# EAGLE library part 28*256 (library common)
Parallel EEPROM Memory, 256kbit, 150ns, 4.5 to 5.5 V 32-Pin PLCC
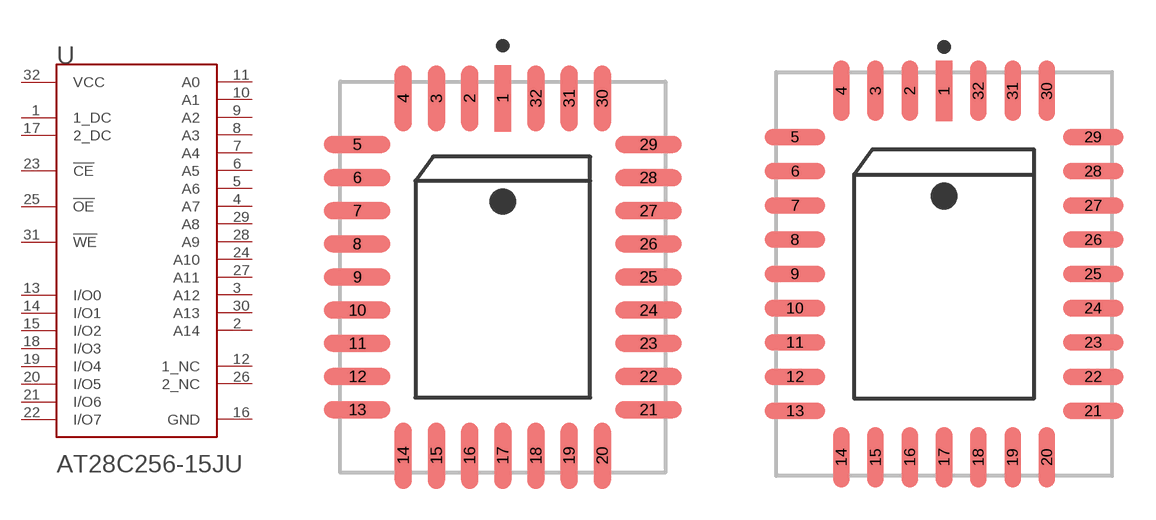
[diagram p55: symbol with the pads of MICROCHIP_AT28C256-15JU_0; footprints MICROCHIP_AT28C256-15JU_0, MICROCHIP_AT28C256-15JU_1]

Designator prefix U

## 28256-SMD0 (ACCESS_TIME: 150ns; AUTOMOTIVE: No; CENTROID_NOT_SPECIFIED: No; DATASHEET: https://ww1.microchip.com/downloads/en/DeviceDoc/AT28C256-%E2%80%93-Industrial-Grade-256-Kbit-(32,768-x-8)-Paged-Parallel-EEPROM.pdf; DEVICE_CLASS_L1: Integrated Circuits (ICs); DEVICE_CLASS_L2: Memory; DEVICE_CLASS_L3: EEPROM; DIGIKEY_DESCRIPTION: IC EEPROM 256K PARALLEL 32PLCC; DIGIKEY_PART_NUMBER: AT28C256-15JU-ND; FOOTPRINT_PARAMETERS_0: {"fp_type":"PLCC","params":{"N1":{"nom":9,"long name":"Leads on long side","min":null,"max":null,"short name":"N1","type":"count"},"N2":{"nom":7,"long name":"Leads on wide side","min":null,"max":null,"short name":"N2","type":"count"},"A":{"nom":3365500,"long name":"Height","min":3175000,"max":3556000,"short name":"A","type":"measurement"},"A1":{"nom":false,"long name":"Package clearance","min":381000,"max":false,"short name":"A1","type":"measurement"},"A2":{"nom":false,"long name":"Package height","min":false,"max":3175000,"short name":"A2","type":"measurement"},"E":{"nom":12446000,"long name":"Width /w leads","min":12319000,"max":12573000,"short name":"E","type":"measurement"},"E1":{"nom":11430000,"long name":"Package width","min":11354000,"max":11506000,"short name":"E1","type":"measurement"},"D":{"nom":14986000,"long name":"Length /w leads","min":14859000,"max":15113000,"short name":"D","type":"measurement"},"D1":{"nom":13970000,"long name":"Package length","min":13894000,"max":14046000,"short name":"D1","type":"measurement"},"B":{"nom":431500,"long name":"Lead width","min":330000,"max":533000,"short name":"B","type":"measurement"},"C":{"nom":254500,"long name":"Lead thickness","min":191000,"max":318000,"short name":"C","type":"measurement"},"L":{"nom":1752500,"long name":"Lead foot length","min":1054000,"max":false,"short name":"L","type":"measurement"},"e":{"nom":1270000,"long name":"Lead pitch","min":null,"max":null,"short name":"e","type":"measurement"},"offset x":{"nom":0,"long name":"X Center offset","min":null,"max":null,"short name":"offset x","type":"measurement"},"offset y":{"nom":0,"long name":"Y Center offset","min":null,"max":null,"short name":"offset y","type":"measurement"},"LS":{"default":"Rounded rectangle","long name":"Land shape","type":"multichoice","short name":"LS"},"LS1":{"default":"Rectangle","long name":"Land shape (Pin 1)","type":"multichoice","short name":"LS1"},"solder heel":{"nom":550000,"long name":"Solder fillet (heel)","min":null,"max":null,"short name":"solder heel","type":"fixedmeasurement"},"solder toe":{"nom":100000,"long name":"Solder fillet (toe)","min":null,"max":null,"short name":"solder toe","type":"fixedmeasurement"},"solder side":{"nom":50000,"long name":"Solder fillet (side)","min":null,"max":null,"short name":"solder side","type":"fixedmeasurement"},"courtyard":{"nom":500000,"long name":"Courtyard","min":null,"max":null,"short name":"courtyard","type":"fixedmeasurement"},"SF":{"default":"A","long name":"Packing level","type":"multichoiceparent","short name":"SF","help":"http://support.upverter.com/customer/portal/articles/978783-what-is-a-footprint-packing-level","children":["solder heel","solder toe","solder side","courtyard"]}}}; FOOTPRINT_PARAMETERS_1: {"fp_type":"PLCC","params":{"N1":{"nom":9,"long name":"Leads on long side","min":null,"max":null,"short name":"N1","type":"count"},"N2":{"nom":7,"long name":"Leads on wide side","min":null,"max":null,"short name":"N2","type":"count"},"A":{"nom":3365500,"long name":"Height","min":3175000,"max":3556000,"short name":"A","type":"measurement"},"A1":{"nom":false,"long name":"Package clearance","min":381000,"max":false,"short name":"A1","type":"measurement"},"A2":{"nom":false,"long name":"Package height","min":false,"max":3175000,"short name":"A2","type":"measurement"},"E":{"nom":12446000,"long name":"Width /w leads","min":12319000,"max":12573000,"short name":"E","type":"measurement"},"E1":{"nom":11430000,"long name":"Package width","min":11354000,"max":11506000,"short name":"E1","type":"measurement"},"D":{"nom":14986000,"long name":"Length /w leads","min":14859000,"max":15113000,"short name":"D","type":"measurement"},"D1":{"nom":13970000,"long name":"Package length","min":13894000,"max":14046000,"short name":"D1","type":"measurement"},"B":{"nom":431500,"long name":"Lead width","min":330000,"max":533000,"short name":"B","type":"measurement"},"C":{"nom":254500,"long name":"Lead thickness","min":191000,"max":318000,"short name":"C","type":"measurement"},"L":{"nom":1752500,"long name":"Lead foot length","min":1054000,"max":false,"short name":"L","type":"measurement"},"e":{"nom":1270000,"long name":"Lead pitch","min":null,"max":null,"short name":"e","type":"measurement"},"offset x":{"nom":0,"long name":"X Center offset","min":null,"max":null,"short name":"offset x","type":"measurement"},"offset y":{"nom":0,"long name":"Y Center offset","min":null,"max":null,"short name":"offset y","type":"measurement"},"LS":{"default":"Rounded rectangle","long name":"Land shape","type":"multichoice","short name":"LS"},"LS1":{"default":"Rectangle","long name":"Land shape (Pin 1)","type":"multichoice","short name":"LS1"},"solder heel":{"nom":350000,"long name":"Solder fillet (heel)","min":null,"max":null,"short name":"solder heel","type":"fixedmeasurement"},"solder toe":{"nom":0,"long name":"Solder fillet (toe)","min":null,"max":null,"short name":"solder toe","type":"fixedmeasurement"},"solder side":{"nom":30000,"long name":"Solder fillet (side)","min":null,"max":null,"short name":"solder side","type":"fixedmeasurement"},"courtyard":{"nom":250000,"long name":"Courtyard","min":null,"max":null,"short name":"courtyard","type":"fixedmeasurement"},"SF":{"default":"B","long name":"Packing level","type":"multichoiceparent","short name":"SF","help":"http://support.upverter.com/customer/portal/articles/978783-what-is-a-footprint-packing-level","children":["solder heel","solder toe","solder side","courtyard"]}}}; FOOTPRINT_PARAMETERS_2: {"fp_type":"PLCC","params":{"N1":{"nom":9,"long name":"Leads on long side","min":null,"max":null,"short name":"N1","type":"count"},"N2":{"nom":7,"long name":"Leads on wide side","min":null,"max":null,"short name":"N2","type":"count"},"A":{"nom":3365500,"long name":"Height","min":3175000,"max":3556000,"short name":"A","type":"measurement"},"A1":{"nom":false,"long name":"Package clearance","min":381000,"max":false,"short name":"A1","type":"measurement"},"A2":{"nom":false,"long name":"Package height","min":false,"max":3175000,"short name":"A2","type":"measurement"},"E":{"nom":12446000,"long name":"Width /w leads","min":12319000,"max":12573000,"short name":"E","type":"measurement"},"E1":{"nom":11430000,"long name":"Package width","min":11354000,"max":11506000,"short name":"E1","type":"measurement"},"D":{"nom":14986000,"long name":"Length /w leads","min":14859000,"max":15113000,"short name":"D","type":"measurement"},"D1":{"nom":13970000,"long name":"Package length","min":13894000,"max":14046000,"short name":"D1","type":"measurement"},"B":{"nom":431500,"long name":"Lead width","min":330000,"max":533000,"short name":"B","type":"measurement"},"C":{"nom":254500,"long name":"Lead thickness","min":191000,"max":318000,"short name":"C","type":"measurement"},"L":{"nom":1752500,"long name":"Lead foot length","min":1054000,"max":false,"short name":"L","type":"measurement"},"e":{"nom":1270000,"long name":"Lead pitch","min":null,"max":null,"short name":"e","type":"measurement"},"offset x":{"nom":0,"long name":"X Center offset","min":null,"max":null,"short name":"offset x","type":"measurement"},"offset y":{"nom":0,"long name":"Y Center offset","min":null,"max":null,"short name":"offset y","type":"measurement"},"LS":{"default":"Rounded rectangle","long name":"Land shape","type":"multichoice","short name":"LS"},"LS1":{"default":"Rectangle","long name":"Land shape (Pin 1)","type":"multichoice","short name":"LS1"},"solder heel":{"nom":150000,"long name":"Solder fillet (heel)","min":null,"max":null,"short name":"solder heel","type":"fixedmeasurement"},"solder toe":{"nom":-100000,"long name":"Solder fillet (toe)","min":null,"max":null,"short name":"solder toe","type":"fixedmeasurement"},"solder side":{"nom":10000,"long name":"Solder fillet (side)","min":null,"max":null,"short name":"solder side","type":"fixedmeasurement"},"courtyard":{"nom":100000,"long name":"Courtyard","min":null,"max":null,"short name":"courtyard","type":"fixedmeasurement"},"SF":{"default":"C","long name":"Packing level","type":"multichoiceparent","short name":"SF","help":"http://support.upverter.com/customer/portal/articles/978783-what-is-a-footprint-packing-level","children":["solder heel","solder toe","solder side","courtyard"]}}}; FOOTPRINT_VARIANT_NAME_0: IPC_A; FOOTPRINT_VARIANT_NAME_1: IPC_B; FOOTPRINT_VARIANT_NAME_2: IPC_C; HEIGHT: 3.556mm; LEAD_FREE: Yes; MAX_SUPPLY_VOLTAGE: 5.5V; MEMORY_SIZE: 256Kbits; MEMORY_TYPE: EEPROM; MF: Microchip; MFG_PACKAGE_IDENT: 32J; MFG_PACKAGE_IDENT_COMPONENT_ID: 7c57706172d07549; MFG_PACKAGE_IDENT_DATE: 10/2001; MFG_PACKAGE_IDENT_REV: B; MIN_SUPPLY_VOLTAGE: 4.5V; MOUSER_PART_NUMBER: 556-AT28C25615JU; MPN: AT28C256-15JU; NOMINAL_SUPPLY_CURRENT: 50mA; PACKAGE: PLCC32; PREFIX: U; ROHS: Yes; STANDOFF_HEIGHT: 0.381mm; TEMPERATURE_RANGE_HIGH: +85°C; TEMPERATURE_RANGE_LOW: -40°C; VERIFICATION_VERSION: 0.0.0.3)  [MICROCHIP_AT28C256-15JU_0]
1  1_DC  nc
2  A14  pas
3  A12  pas
4  A7  pas
5  A6  pas
6  A5  pas
7  A4  pas
8  A3  pas
9  A2  pas
10  A1  pas
11  A0  pas
12  1_NC  pas
13  I/O0
14  I/O1
15  I/O2
16  GND  pwr
17  2_DC  nc
18  I/O3
19  I/O4
20  I/O5
21  I/O6
22  I/O7
23  !CE!
24  A10  pas
25  !OE!  pas
26  2_NC  pas
27  A11
28  A9  pas
29  A8  pas
30  A13  pas
31  !WE!  pas
32  VCC  pwr

## 28256-SMD1 (ACCESS_TIME: 150ns; AUTOMOTIVE: No; CENTROID_NOT_SPECIFIED: No; DATASHEET: https://ww1.microchip.com/downloads/en/DeviceDoc/AT28C256-%E2%80%93-Industrial-Grade-256-Kbit-(32,768-x-8)-Paged-Parallel-EEPROM.pdf; DEVICE_CLASS_L1: Integrated Circuits (ICs); DEVICE_CLASS_L2: Memory; DEVICE_CLASS_L3: EEPROM; DIGIKEY_DESCRIPTION: IC EEPROM 256K PARALLEL 32PLCC; DIGIKEY_PART_NUMBER: AT28C256-15JU-ND; FOOTPRINT_PARAMETERS_0: {"fp_type":"PLCC","params":{"N1":{"nom":9,"long name":"Leads on long side","min":null,"max":null,"short name":"N1","type":"count"},"N2":{"nom":7,"long name":"Leads on wide side","min":null,"max":null,"short name":"N2","type":"count"},"A":{"nom":3365500,"long name":"Height","min":3175000,"max":3556000,"short name":"A","type":"measurement"},"A1":{"nom":false,"long name":"Package clearance","min":381000,"max":false,"short name":"A1","type":"measurement"},"A2":{"nom":false,"long name":"Package height","min":false,"max":3175000,"short name":"A2","type":"measurement"},"E":{"nom":12446000,"long name":"Width /w leads","min":12319000,"max":12573000,"short name":"E","type":"measurement"},"E1":{"nom":11430000,"long name":"Package width","min":11354000,"max":11506000,"short name":"E1","type":"measurement"},"D":{"nom":14986000,"long name":"Length /w leads","min":14859000,"max":15113000,"short name":"D","type":"measurement"},"D1":{"nom":13970000,"long name":"Package length","min":13894000,"max":14046000,"short name":"D1","type":"measurement"},"B":{"nom":431500,"long name":"Lead width","min":330000,"max":533000,"short name":"B","type":"measurement"},"C":{"nom":254500,"long name":"Lead thickness","min":191000,"max":318000,"short name":"C","type":"measurement"},"L":{"nom":1752500,"long name":"Lead foot length","min":1054000,"max":false,"short name":"L","type":"measurement"},"e":{"nom":1270000,"long name":"Lead pitch","min":null,"max":null,"short name":"e","type":"measurement"},"offset x":{"nom":0,"long name":"X Center offset","min":null,"max":null,"short name":"offset x","type":"measurement"},"offset y":{"nom":0,"long name":"Y Center offset","min":null,"max":null,"short name":"offset y","type":"measurement"},"LS":{"default":"Rounded rectangle","long name":"Land shape","type":"multichoice","short name":"LS"},"LS1":{"default":"Rectangle","long name":"Land shape (Pin 1)","type":"multichoice","short name":"LS1"},"solder heel":{"nom":550000,"long name":"Solder fillet (heel)","min":null,"max":null,"short name":"solder heel","type":"fixedmeasurement"},"solder toe":{"nom":100000,"long name":"Solder fillet (toe)","min":null,"max":null,"short name":"solder toe","type":"fixedmeasurement"},"solder side":{"nom":50000,"long name":"Solder fillet (side)","min":null,"max":null,"short name":"solder side","type":"fixedmeasurement"},"courtyard":{"nom":500000,"long name":"Courtyard","min":null,"max":null,"short name":"courtyard","type":"fixedmeasurement"},"SF":{"default":"A","long name":"Packing level","type":"multichoiceparent","short name":"SF","help":"http://support.upverter.com/customer/portal/articles/978783-what-is-a-footprint-packing-level","children":["solder heel","solder toe","solder side","courtyard"]}}}; FOOTPRINT_PARAMETERS_1: {"fp_type":"PLCC","params":{"N1":{"nom":9,"long name":"Leads on long side","min":null,"max":null,"short name":"N1","type":"count"},"N2":{"nom":7,"long name":"Leads on wide side","min":null,"max":null,"short name":"N2","type":"count"},"A":{"nom":3365500,"long name":"Height","min":3175000,"max":3556000,"short name":"A","type":"measurement"},"A1":{"nom":false,"long name":"Package clearance","min":381000,"max":false,"short name":"A1","type":"measurement"},"A2":{"nom":false,"long name":"Package height","min":false,"max":3175000,"short name":"A2","type":"measurement"},"E":{"nom":12446000,"long name":"Width /w leads","min":12319000,"max":12573000,"short name":"E","type":"measurement"},"E1":{"nom":11430000,"long name":"Package width","min":11354000,"max":11506000,"short name":"E1","type":"measurement"},"D":{"nom":14986000,"long name":"Length /w leads","min":14859000,"max":15113000,"short name":"D","type":"measurement"},"D1":{"nom":13970000,"long name":"Package length","min":13894000,"max":14046000,"short name":"D1","type":"measurement"},"B":{"nom":431500,"long name":"Lead width","min":330000,"max":533000,"short name":"B","type":"measurement"},"C":{"nom":254500,"long name":"Lead thickness","min":191000,"max":318000,"short name":"C","type":"measurement"},"L":{"nom":1752500,"long name":"Lead foot length","min":1054000,"max":false,"short name":"L","type":"measurement"},"e":{"nom":1270000,"long name":"Lead pitch","min":null,"max":null,"short name":"e","type":"measurement"},"offset x":{"nom":0,"long name":"X Center offset","min":null,"max":null,"short name":"offset x","type":"measurement"},"offset y":{"nom":0,"long name":"Y Center offset","min":null,"max":null,"short name":"offset y","type":"measurement"},"LS":{"default":"Rounded rectangle","long name":"Land shape","type":"multichoice","short name":"LS"},"LS1":{"default":"Rectangle","long name":"Land shape (Pin 1)","type":"multichoice","short name":"LS1"},"solder heel":{"nom":350000,"long name":"Solder fillet (heel)","min":null,"max":null,"short name":"solder heel","type":"fixedmeasurement"},"solder toe":{"nom":0,"long name":"Solder fillet (toe)","min":null,"max":null,"short name":"solder toe","type":"fixedmeasurement"},"solder side":{"nom":30000,"long name":"Solder fillet (side)","min":null,"max":null,"short name":"solder side","type":"fixedmeasurement"},"courtyard":{"nom":250000,"long name":"Courtyard","min":null,"max":null,"short name":"courtyard","type":"fixedmeasurement"},"SF":{"default":"B","long name":"Packing level","type":"multichoiceparent","short name":"SF","help":"http://support.upverter.com/customer/portal/articles/978783-what-is-a-footprint-packing-level","children":["solder heel","solder toe","solder side","courtyard"]}}}; FOOTPRINT_PARAMETERS_2: {"fp_type":"PLCC","params":{"N1":{"nom":9,"long name":"Leads on long side","min":null,"max":null,"short name":"N1","type":"count"},"N2":{"nom":7,"long name":"Leads on wide side","min":null,"max":null,"short name":"N2","type":"count"},"A":{"nom":3365500,"long name":"Height","min":3175000,"max":3556000,"short name":"A","type":"measurement"},"A1":{"nom":false,"long name":"Package clearance","min":381000,"max":false,"short name":"A1","type":"measurement"},"A2":{"nom":false,"long name":"Package height","min":false,"max":3175000,"short name":"A2","type":"measurement"},"E":{"nom":12446000,"long name":"Width /w leads","min":12319000,"max":12573000,"short name":"E","type":"measurement"},"E1":{"nom":11430000,"long name":"Package width","min":11354000,"max":11506000,"short name":"E1","type":"measurement"},"D":{"nom":14986000,"long name":"Length /w leads","min":14859000,"max":15113000,"short name":"D","type":"measurement"},"D1":{"nom":13970000,"long name":"Package length","min":13894000,"max":14046000,"short name":"D1","type":"measurement"},"B":{"nom":431500,"long name":"Lead width","min":330000,"max":533000,"short name":"B","type":"measurement"},"C":{"nom":254500,"long name":"Lead thickness","min":191000,"max":318000,"short name":"C","type":"measurement"},"L":{"nom":1752500,"long name":"Lead foot length","min":1054000,"max":false,"short name":"L","type":"measurement"},"e":{"nom":1270000,"long name":"Lead pitch","min":null,"max":null,"short name":"e","type":"measurement"},"offset x":{"nom":0,"long name":"X Center offset","min":null,"max":null,"short name":"offset x","type":"measurement"},"offset y":{"nom":0,"long name":"Y Center offset","min":null,"max":null,"short name":"offset y","type":"measurement"},"LS":{"default":"Rounded rectangle","long name":"Land shape","type":"multichoice","short name":"LS"},"LS1":{"default":"Rectangle","long name":"Land shape (Pin 1)","type":"multichoice","short name":"LS1"},"solder heel":{"nom":150000,"long name":"Solder fillet (heel)","min":null,"max":null,"short name":"solder heel","type":"fixedmeasurement"},"solder toe":{"nom":-100000,"long name":"Solder fillet (toe)","min":null,"max":null,"short name":"solder toe","type":"fixedmeasurement"},"solder side":{"nom":10000,"long name":"Solder fillet (side)","min":null,"max":null,"short name":"solder side","type":"fixedmeasurement"},"courtyard":{"nom":100000,"long name":"Courtyard","min":null,"max":null,"short name":"courtyard","type":"fixedmeasurement"},"SF":{"default":"C","long name":"Packing level","type":"multichoiceparent","short name":"SF","help":"http://support.upverter.com/customer/portal/articles/978783-what-is-a-footprint-packing-level","children":["solder heel","solder toe","solder side","courtyard"]}}}; FOOTPRINT_VARIANT_NAME_0: IPC_A; FOOTPRINT_VARIANT_NAME_1: IPC_B; FOOTPRINT_VARIANT_NAME_2: IPC_C; HEIGHT: 3.556mm; LEAD_FREE: Yes; MAX_SUPPLY_VOLTAGE: 5.5V; MEMORY_SIZE: 256Kbits; MEMORY_TYPE: EEPROM; MF: Microchip; MFG_PACKAGE_IDENT: 32J; MFG_PACKAGE_IDENT_COMPONENT_ID: 7c57706172d07549; MFG_PACKAGE_IDENT_DATE: 10/2001; MFG_PACKAGE_IDENT_REV: B; MIN_SUPPLY_VOLTAGE: 4.5V; MOUSER_PART_NUMBER: 556-AT28C25615JU; MPN: AT28C256-15JU; NOMINAL_SUPPLY_CURRENT: 50mA; PACKAGE: PLCC32; PREFIX: U; ROHS: Yes; STANDOFF_HEIGHT: 0.381mm; TEMPERATURE_RANGE_HIGH: +85°C; TEMPERATURE_RANGE_LOW: -40°C; VERIFICATION_VERSION: 0.0.0.3)  [MICROCHIP_AT28C256-15JU_1]
Pads as for MICROCHIP_AT28C256-15JU_0

## 28256-SMD2 (ACCESS_TIME: 150ns; AUTOMOTIVE: No; CENTROID_NOT_SPECIFIED: No; DATASHEET: https://ww1.microchip.com/downloads/en/DeviceDoc/AT28C256-%E2%80%93-Industrial-Grade-256-Kbit-(32,768-x-8)-Paged-Parallel-EEPROM.pdf; DEVICE_CLASS_L1: Integrated Circuits (ICs); DEVICE_CLASS_L2: Memory; DEVICE_CLASS_L3: EEPROM; DIGIKEY_DESCRIPTION: IC EEPROM 256K PARALLEL 32PLCC; DIGIKEY_PART_NUMBER: AT28C256-15JU-ND; FOOTPRINT_PARAMETERS_0: {"fp_type":"PLCC","params":{"N1":{"nom":9,"long name":"Leads on long side","min":null,"max":null,"short name":"N1","type":"count"},"N2":{"nom":7,"long name":"Leads on wide side","min":null,"max":null,"short name":"N2","type":"count"},"A":{"nom":3365500,"long name":"Height","min":3175000,"max":3556000,"short name":"A","type":"measurement"},"A1":{"nom":false,"long name":"Package clearance","min":381000,"max":false,"short name":"A1","type":"measurement"},"A2":{"nom":false,"long name":"Package height","min":false,"max":3175000,"short name":"A2","type":"measurement"},"E":{"nom":12446000,"long name":"Width /w leads","min":12319000,"max":12573000,"short name":"E","type":"measurement"},"E1":{"nom":11430000,"long name":"Package width","min":11354000,"max":11506000,"short name":"E1","type":"measurement"},"D":{"nom":14986000,"long name":"Length /w leads","min":14859000,"max":15113000,"short name":"D","type":"measurement"},"D1":{"nom":13970000,"long name":"Package length","min":13894000,"max":14046000,"short name":"D1","type":"measurement"},"B":{"nom":431500,"long name":"Lead width","min":330000,"max":533000,"short name":"B","type":"measurement"},"C":{"nom":254500,"long name":"Lead thickness","min":191000,"max":318000,"short name":"C","type":"measurement"},"L":{"nom":1752500,"long name":"Lead foot length","min":1054000,"max":false,"short name":"L","type":"measurement"},"e":{"nom":1270000,"long name":"Lead pitch","min":null,"max":null,"short name":"e","type":"measurement"},"offset x":{"nom":0,"long name":"X Center offset","min":null,"max":null,"short name":"offset x","type":"measurement"},"offset y":{"nom":0,"long name":"Y Center offset","min":null,"max":null,"short name":"offset y","type":"measurement"},"LS":{"default":"Rounded rectangle","long name":"Land shape","type":"multichoice","short name":"LS"},"LS1":{"default":"Rectangle","long name":"Land shape (Pin 1)","type":"multichoice","short name":"LS1"},"solder heel":{"nom":550000,"long name":"Solder fillet (heel)","min":null,"max":null,"short name":"solder heel","type":"fixedmeasurement"},"solder toe":{"nom":100000,"long name":"Solder fillet (toe)","min":null,"max":null,"short name":"solder toe","type":"fixedmeasurement"},"solder side":{"nom":50000,"long name":"Solder fillet (side)","min":null,"max":null,"short name":"solder side","type":"fixedmeasurement"},"courtyard":{"nom":500000,"long name":"Courtyard","min":null,"max":null,"short name":"courtyard","type":"fixedmeasurement"},"SF":{"default":"A","long name":"Packing level","type":"multichoiceparent","short name":"SF","help":"http://support.upverter.com/customer/portal/articles/978783-what-is-a-footprint-packing-level","children":["solder heel","solder toe","solder side","courtyard"]}}}; FOOTPRINT_PARAMETERS_1: {"fp_type":"PLCC","params":{"N1":{"nom":9,"long name":"Leads on long side","min":null,"max":null,"short name":"N1","type":"count"},"N2":{"nom":7,"long name":"Leads on wide side","min":null,"max":null,"short name":"N2","type":"count"},"A":{"nom":3365500,"long name":"Height","min":3175000,"max":3556000,"short name":"A","type":"measurement"},"A1":{"nom":false,"long name":"Package clearance","min":381000,"max":false,"short name":"A1","type":"measurement"},"A2":{"nom":false,"long name":"Package height","min":false,"max":3175000,"short name":"A2","type":"measurement"},"E":{"nom":12446000,"long name":"Width /w leads","min":12319000,"max":12573000,"short name":"E","type":"measurement"},"E1":{"nom":11430000,"long name":"Package width","min":11354000,"max":11506000,"short name":"E1","type":"measurement"},"D":{"nom":14986000,"long name":"Length /w leads","min":14859000,"max":15113000,"short name":"D","type":"measurement"},"D1":{"nom":13970000,"long name":"Package length","min":13894000,"max":14046000,"short name":"D1","type":"measurement"},"B":{"nom":431500,"long name":"Lead width","min":330000,"max":533000,"short name":"B","type":"measurement"},"C":{"nom":254500,"long name":"Lead thickness","min":191000,"max":318000,"short name":"C","type":"measurement"},"L":{"nom":1752500,"long name":"Lead foot length","min":1054000,"max":false,"short name":"L","type":"measurement"},"e":{"nom":1270000,"long name":"Lead pitch","min":null,"max":null,"short name":"e","type":"measurement"},"offset x":{"nom":0,"long name":"X Center offset","min":null,"max":null,"short name":"offset x","type":"measurement"},"offset y":{"nom":0,"long name":"Y Center offset","min":null,"max":null,"short name":"offset y","type":"measurement"},"LS":{"default":"Rounded rectangle","long name":"Land shape","type":"multichoice","short name":"LS"},"LS1":{"default":"Rectangle","long name":"Land shape (Pin 1)","type":"multichoice","short name":"LS1"},"solder heel":{"nom":350000,"long name":"Solder fillet (heel)","min":null,"max":null,"short name":"solder heel","type":"fixedmeasurement"},"solder toe":{"nom":0,"long name":"Solder fillet (toe)","min":null,"max":null,"short name":"solder toe","type":"fixedmeasurement"},"solder side":{"nom":30000,"long name":"Solder fillet (side)","min":null,"max":null,"short name":"solder side","type":"fixedmeasurement"},"courtyard":{"nom":250000,"long name":"Courtyard","min":null,"max":null,"short name":"courtyard","type":"fixedmeasurement"},"SF":{"default":"B","long name":"Packing level","type":"multichoiceparent","short name":"SF","help":"http://support.upverter.com/customer/portal/articles/978783-what-is-a-footprint-packing-level","children":["solder heel","solder toe","solder side","courtyard"]}}}; FOOTPRINT_PARAMETERS_2: {"fp_type":"PLCC","params":{"N1":{"nom":9,"long name":"Leads on long side","min":null,"max":null,"short name":"N1","type":"count"},"N2":{"nom":7,"long name":"Leads on wide side","min":null,"max":null,"short name":"N2","type":"count"},"A":{"nom":3365500,"long name":"Height","min":3175000,"max":3556000,"short name":"A","type":"measurement"},"A1":{"nom":false,"long name":"Package clearance","min":381000,"max":false,"short name":"A1","type":"measurement"},"A2":{"nom":false,"long name":"Package height","min":false,"max":3175000,"short name":"A2","type":"measurement"},"E":{"nom":12446000,"long name":"Width /w leads","min":12319000,"max":12573000,"short name":"E","type":"measurement"},"E1":{"nom":11430000,"long name":"Package width","min":11354000,"max":11506000,"short name":"E1","type":"measurement"},"D":{"nom":14986000,"long name":"Length /w leads","min":14859000,"max":15113000,"short name":"D","type":"measurement"},"D1":{"nom":13970000,"long name":"Package length","min":13894000,"max":14046000,"short name":"D1","type":"measurement"},"B":{"nom":431500,"long name":"Lead width","min":330000,"max":533000,"short name":"B","type":"measurement"},"C":{"nom":254500,"long name":"Lead thickness","min":191000,"max":318000,"short name":"C","type":"measurement"},"L":{"nom":1752500,"long name":"Lead foot length","min":1054000,"max":false,"short name":"L","type":"measurement"},"e":{"nom":1270000,"long name":"Lead pitch","min":null,"max":null,"short name":"e","type":"measurement"},"offset x":{"nom":0,"long name":"X Center offset","min":null,"max":null,"short name":"offset x","type":"measurement"},"offset y":{"nom":0,"long name":"Y Center offset","min":null,"max":null,"short name":"offset y","type":"measurement"},"LS":{"default":"Rounded rectangle","long name":"Land shape","type":"multichoice","short name":"LS"},"LS1":{"default":"Rectangle","long name":"Land shape (Pin 1)","type":"multichoice","short name":"LS1"},"solder heel":{"nom":150000,"long name":"Solder fillet (heel)","min":null,"max":null,"short name":"solder heel","type":"fixedmeasurement"},"solder toe":{"nom":-100000,"long name":"Solder fillet (toe)","min":null,"max":null,"short name":"solder toe","type":"fixedmeasurement"},"solder side":{"nom":10000,"long name":"Solder fillet (side)","min":null,"max":null,"short name":"solder side","type":"fixedmeasurement"},"courtyard":{"nom":100000,"long name":"Courtyard","min":null,"max":null,"short name":"courtyard","type":"fixedmeasurement"},"SF":{"default":"C","long name":"Packing level","type":"multichoiceparent","short name":"SF","help":"http://support.upverter.com/customer/portal/articles/978783-what-is-a-footprint-packing-level","children":["solder heel","solder toe","solder side","courtyard"]}}}; FOOTPRINT_VARIANT_NAME_0: IPC_A; FOOTPRINT_VARIANT_NAME_1: IPC_B; FOOTPRINT_VARIANT_NAME_2: IPC_C; HEIGHT: 3.556mm; LEAD_FREE: Yes; MAX_SUPPLY_VOLTAGE: 5.5V; MEMORY_SIZE: 256Kbits; MEMORY_TYPE: EEPROM; MF: Microchip; MFG_PACKAGE_IDENT: 32J; MFG_PACKAGE_IDENT_COMPONENT_ID: 7c57706172d07549; MFG_PACKAGE_IDENT_DATE: 10/2001; MFG_PACKAGE_IDENT_REV: B; MIN_SUPPLY_VOLTAGE: 4.5V; MOUSER_PART_NUMBER: 556-AT28C25615JU; MPN: AT28C256-15JU; NOMINAL_SUPPLY_CURRENT: 50mA; PACKAGE: PLCC32; PREFIX: U; ROHS: Yes; STANDOFF_HEIGHT: 0.381mm; TEMPERATURE_RANGE_HIGH: +85°C; TEMPERATURE_RANGE_LOW: -40°C; VERIFICATION_VERSION: 0.0.0.3)  [MICROCHIP_AT28C256-15JU_2]
Pads as for MICROCHIP_AT28C256-15JU_0

## 28256-THT-M  [PLCC-32M]
Pads as for MICROCHIP_AT28C256-15JU_0

## 28256-THT  [PLCC-32S]
Pads as for MICROCHIP_AT28C256-15JU_0

## Footprint MICROCHIP_AT28C256-15JU_0 (pad centres in mm)
Parallel EEPROM Memory, 256kbit, 150ns, 4.5 to 5.5 V 32-Pin PLCC
smd 0.645 x 2.536: 1 0,6.844; 2 -1.27,6.844; 3 -2.54,6.844; 4 -3.81,6.844; 14 -3.81,-6.844; 15 -2.54,-6.844; 16 -1.27,-6.844; 17 0,-6.844; 18 1.27,-6.844; 19 2.54,-6.844; 20 3.81,-6.844; 30 3.81,6.844; 31 2.54,6.844; 32 1.27,6.844
smd 2.536 x 0.645: 5 -5.574,5.08; 6 -5.574,3.81; 7 -5.574,2.54; 8 -5.574,1.27; 9 -5.574,0; 10 -5.574,-1.27; 11 -5.574,-2.54; 12 -5.574,-3.81; 13 -5.574,-5.08; 21 5.574,-5.08; 22 5.574,-3.81; 23 5.574,-2.54; 24 5.574,-1.27; 25 5.574,0; 26 5.574,1.27; 27 5.574,2.54; 28 5.574,3.81; 29 5.574,5.08

## Footprint MICROCHIP_AT28C256-15JU_1 (pad centres in mm)
Parallel EEPROM Memory, 256kbit, 150ns, 4.5 to 5.5 V 32-Pin PLCC
smd 0.605 x 2.236: 1 0,6.794; 2 -1.27,6.794; 3 -2.54,6.794; 4 -3.81,6.794; 14 -3.81,-6.794; 15 -2.54,-6.794; 16 -1.27,-6.794; 17 0,-6.794; 18 1.27,-6.794; 19 2.54,-6.794; 20 3.81,-6.794; 30 3.81,6.794; 31 2.54,6.794; 32 1.27,6.794
smd 2.236 x 0.605: 5 -5.524,5.08; 6 -5.524,3.81; 7 -5.524,2.54; 8 -5.524,1.27; 9 -5.524,0; 10 -5.524,-1.27; 11 -5.524,-2.54; 12 -5.524,-3.81; 13 -5.524,-5.08; 21 5.524,-5.08; 22 5.524,-3.81; 23 5.524,-2.54; 24 5.524,-1.27; 25 5.524,0; 26 5.524,1.27; 27 5.524,2.54; 28 5.524,3.81; 29 5.524,5.08

## Footprint MICROCHIP_AT28C256-15JU_2 (pad centres in mm)
Parallel EEPROM Memory, 256kbit, 150ns, 4.5 to 5.5 V 32-Pin PLCC
smd 0.565 x 1.936: 1 0,6.744; 2 -1.27,6.744; 3 -2.54,6.744; 4 -3.81,6.744; 14 -3.81,-6.744; 15 -2.54,-6.744; 16 -1.27,-6.744; 17 0,-6.744; 18 1.27,-6.744; 19 2.54,-6.744; 20 3.81,-6.744; 30 3.81,6.744; 31 2.54,6.744; 32 1.27,6.744
smd 1.936 x 0.565: 5 -5.474,5.08; 6 -5.474,3.81; 7 -5.474,2.54; 8 -5.474,1.27; 9 -5.474,0; 10 -5.474,-1.27; 11 -5.474,-2.54; 12 -5.474,-3.81; 13 -5.474,-5.08; 21 5.474,-5.08; 22 5.474,-3.81; 23 5.474,-2.54; 24 5.474,-1.27; 25 5.474,0; 26 5.474,1.27; 27 5.474,2.54; 28 5.474,3.81; 29 5.474,5.08

## Footprint PLCC-32M (pad centres in mm)
PLCC SOCKET
drill 0.9 square: 1 0,5.08
drill 0.9 octagon: 2 -1.27,7.62; 3 -2.54,5.08; 4 -3.81,7.62; 5 -6.35,5.08; 6 -3.81,3.81; 7 -6.35,2.54; 8 -3.81,1.27; 9 -6.35,0; 10 -3.81,-1.27; 11 -6.35,-2.54; 12 -3.81,-3.81; 13 -6.35,-5.08; 14 -3.81,-7.62; 15 -2.54,-5.08; 16 -1.27,-7.62; 17 0,-5.08; 18 1.27,-7.62; 19 2.54,-5.08; 20 3.81,-7.62; 21 6.35,-5.08; 22 3.81,-3.81; 23 6.35,-2.54; 24 3.81,-1.27; 25 6.35,0; 26 3.81,1.27; 27 6.35,2.54; 28 3.81,3.81; 29 6.35,5.08; 30 3.81,7.62; 31 2.54,5.08; 32 1.27,7.62

## Footprint PLCC-32S (pad centres in mm)
PLCC SOCKET
drill 0.9 square: 1 1.27,5.08
drill 0.9 octagon: 2 -1.27,7.62; 3 -1.27,5.08; 4 -3.81,7.62; 5 -6.35,5.08; 6 -3.81,5.08; 7 -6.35,2.54; 8 -3.81,2.54; 9 -6.35,0; 10 -3.81,0; 11 -6.35,-2.54; 12 -3.81,-2.54; 13 -6.35,-5.08; 14 -3.81,-7.62; 15 -3.81,-5.08; 16 -1.27,-7.62; 17 -1.27,-5.08; 18 1.27,-7.62; 19 1.27,-5.08; 20 3.81,-7.62; 21 6.35,-5.08; 22 3.81,-5.08; 23 6.35,-2.54; 24 3.81,-2.54; 25 6.35,0; 26 3.81,0; 27 6.35,2.54; 28 3.81,2.54; 29 6.35,5.08; 30 3.81,7.62; 31 3.81,5.08; 32 1.27,7.62